# EAGLE library part IC24 (library con-phoenix-508)
PHOENIX
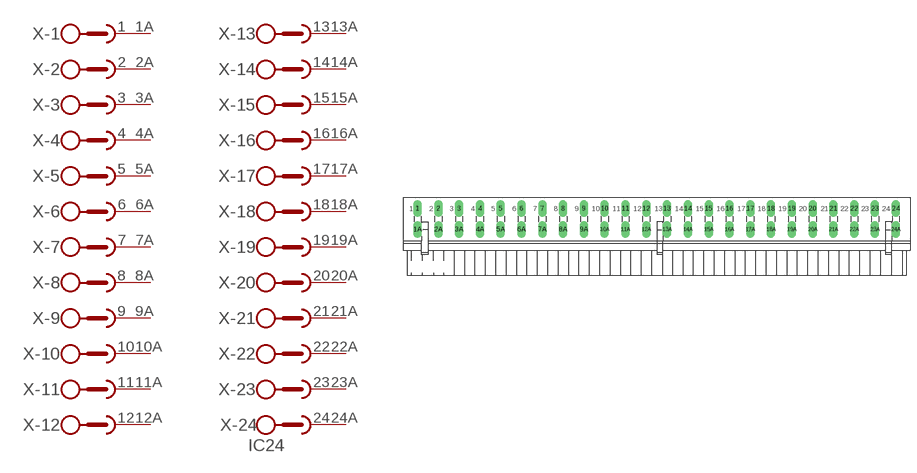
[diagram p26: symbol with the pads of IC24; footprint IC24]

Designator prefix X; gates -1=SKB2 -2=SKB2 -3=SKB2 -4=SKB2 -5=SKB2 -6=SKB2 -7=SKB2 -8=SKB2 -9=SKB2 -10=SKB2 -11=SKB2 -12=SKB2 -13=SKB2 -14=SKB2 -15=SKB2 -16=SKB2 -17=SKB2 -18=SKB2 -19=SKB2 -20=SKB2 -21=SKB2 -22=SKB2 -23=SKB2 -24=SKB2V

## IC24 (OC_FARNELL: unknown; OC_NEWARK: unknown)  [IC24]
1  -1:1  pas
1A  -1:2  pas
2  -2:1  pas
2A  -2:2  pas
3  -3:1  pas
3A  -3:2  pas
4  -4:1  pas
4A  -4:2  pas
5  -5:1  pas
5A  -5:2  pas
6  -6:1  pas
6A  -6:2  pas
7  -7:1  pas
7A  -7:2  pas
8  -8:1  pas
8A  -8:2  pas
9  -9:1  pas
9A  -9:2  pas
10  -10:1  pas
10A  -10:2  pas
11  -11:1  pas
11A  -11:2  pas
12  -12:1  pas
12A  -12:2  pas
13  -13:1  pas
13A  -13:2  pas
14  -14:1  pas
14A  -14:2  pas
15  -15:1  pas
15A  -15:2  pas
16  -16:1  pas
16A  -16:2  pas
17  -17:1  pas
17A  -17:2  pas
18  -18:1  pas
18A  -18:2  pas
19  -19:1  pas
19A  -19:2  pas
20  -20:1  pas
20A  -20:2  pas
21  -21:1  pas
21A  -21:2  pas
22  -22:1  pas
22A  -22:2  pas
23  -23:1  pas
23A  -23:2  pas
24  -24:1  pas
24A  -24:2  pas

## Footprint IC24 (pad centres in mm)
PHOENIX
drill 1.397 long: 1 -58.42,2.54; 1A -58.42,-2.54; 2 -53.34,2.54; 2A -53.34,-2.54; 3 -48.26,2.54; 3A -48.26,-2.54; 4 -43.18,2.54; 4A -43.18,-2.54; 5 -38.1,2.54; 5A -38.1,-2.54; 6 -33.02,2.54; 6A -33.02,-2.54; 7 -27.94,2.54; 7A -27.94,-2.54; 8 -22.86,2.54; 8A -22.86,-2.54; 9 -17.78,2.54; 9A -17.78,-2.54; 10 -12.7,2.54; 10A -12.7,-2.54; 11 -7.62,2.54; 11A -7.62,-2.54; 12 -2.54,2.54; 12A -2.54,-2.54; 13 2.54,2.54; 13A 2.54,-2.54; 14 7.62,2.54; 14A 7.62,-2.54; 15 12.7,2.54; 15A 12.7,-2.54; 16 17.78,2.54; 16A 17.78,-2.54; 17 22.86,2.54; 17A 22.86,-2.54; 18 27.94,2.54; 18A 27.94,-2.54; 19 33.02,2.54; 19A 33.02,-2.54; 20 38.1,2.54; 20A 38.1,-2.54; 21 43.18,2.54; 21A 43.18,-2.54; 22 48.26,2.54; 22A 48.26,-2.54; 23 53.34,2.54; 23A 53.34,-2.54; 24 58.42,2.54; 24A 58.42,-2.54